# Altium schematic symbol library GMR100HTCFIR220.SchLib: 1 symbol
Pins are listed as number, name and electrical type; pins without a type are passive.

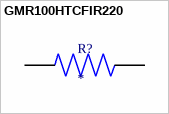
[diagram p0: symbol GMR100HTCFIR220]

## GMR100HTCFIR220
designator R?
Current Sense Res, Aec-Q200, 0R22, 2512; MP: GMR100HTCFIR220; Package: None; Price: None; Value: *; Availability: Unavailable
footprint RESC6432X55N
pins: 1, 2